# Altium schematic symbol library Schlib1.SchLib: 12 symbols
Pins are listed as number, name and electrical type; pins without a type are passive.

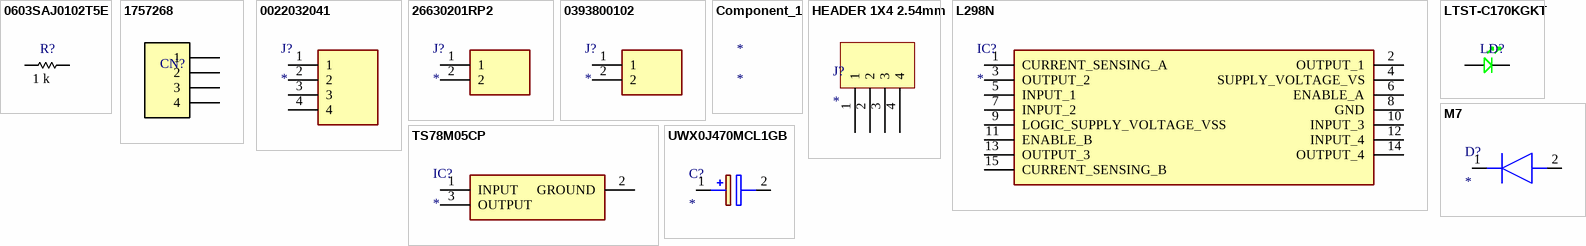
[diagram p0: symbols 0603SAJ0102T5E to UWX0J470MCL1GB]

## 0603SAJ0102T5E
designator R?  Resistance: 1 k  (hidden comment: *)
RES SMD 1K OHM 5% 1/10W 0603
footprint ROYALOHM_RES_0603
pins: 1, 2

## 1757268
designator CN?  (value not drawn)
TERM BLOCK HDR 4POS 90DEG 5.08MM; Supplier 1: Digi-Key; Supplier 2: Farnell; Supplier 3: Mouser; Supplier 4: Arrow Electronics; Supplier Part Number 1: 277-1108-ND; Supplier Part Number 2: 3705195; Supplier Part Number 3: 651-1757268; Supplier Part Number 4: 1757268
footprint PHOENIX_1757268
pins: 1, 2, 3, 4

## 0022032041
designator J?
Connector; Manufacturer_Name: Molex; Manufacturer_Part_Number: 0022032041; Description: KK 100 Header Assembly 4-Pin; Datasheet Link: http://www.molex.com/pdm_docs/sd/022032041_sd.pdf; Height: 11.55mm; Mouser Part Number: N/A; Mouser Price/Stock: https://www.mouser.co.uk/ProductDetail/Molex/0022032041?qs=PBcRNPEHKsrt5pJfEqGMHQ%3D%3D; Arrow Part Number: 0022032041; Arrow Price/Stock: https://www.arrow.com/en/products/0022032041/molex?region=europe
footprint HDRV4W87P0X254_1X4_991X236X1155P
pins: 1, 2, 3, 4

## 26630201RP2
designator J?
Connector; Manufacturer_Name: NorComp; Manufacturer_Part_Number: 26630201RP2; Description: Headers & Wire Housings 1X2 HEADER/STRAIGHT; Datasheet Link: https://datasheet.datasheetarchive.com/originals/dk/DKDS-31/606291.pdf; Height: 5.563mm; Mouser Part Number: 636-26630201RP2; Mouser Price/Stock: https://www.mouser.co.uk/ProductDetail/NorComp/26630201RP2?qs=TaIhzdgpGpXrxdLS9EY2Xg%3D%3D
footprint HDRV2W51P0X201_1X2_500X201X556P
pins: 1, 2

## 0393800102
designator J?
Connector; Manufacturer_Name: Molex; Manufacturer_Part_Number: 0393800102; Datasheet Link: https://www.molex.com/pdm_docs/sd/393800102_sd.pdf; Height: 21.63mm; Mouser Part Number: N/A; Mouser Price/Stock: https://www.mouser.co.uk/ProductDetail/Molex/0393800102?qs=PBcRNPEHKspywEvg9%2FvnAw%3D%3D; Arrow Part Number: 0393800102; Arrow Price/Stock: https://www.arrow.com/en/products/0393800102/molex
footprint 0393800102
pins: 1, 2

## Component_1
designator *

## HEADER 1X4 2.54mm
designator J?
footprint HEADER 1X4 2.54mm
pins: 1, 2, 3, 4

## L298N
designator IC?
Integrated Circuit; Manufacturer_Name: Magnatec; Description: L298N; Manufacturer_Part_Number: L298N
footprint MULTIWATT15V_1
pins: 1 CURRENT_SENSING_A, 2 OUTPUT_1, 3 OUTPUT_2, 4 SUPPLY_VOLTAGE_VS, 5 INPUT_1, 6 ENABLE_A, 7 INPUT_2, 8 GND, 9 LOGIC_SUPPLY_VOLTAGE_VSS, 10 INPUT_3, 11 ENABLE_B, 12 INPUT_4, 13 OUTPUT_3, 14 OUTPUT_4, 15 CURRENT_SENSING_B

## LTST-C170KGKT
designator LD?  (value not drawn)
LED GREEN CLEAR SMD; Supplier 1: Digi-Key; Supplier 2: Mouser; Supplier Part Number 1: 160-1414-1-ND; Supplier Part Number 2: 859-LTST-C170KGKT
footprint LITEON_0805-GREEN
pins: 1 R+, 2 R-

## M7
designator D?
Diode; Manufacturer_Name: LGE; Manufacturer_Part_Number: M7; Description: Diodes - General Purpose 1000V 1A 1.1V @ 1A SMAJ RoHS; Datasheet Link: https://datasheet.lcsc.com/szlcsc/LGE-M7-SMAJ_C330214.pdf; Height: 2.45mm
footprint DIOM5626X245N
pins: 1 K, 2 A

## TS78M05CP
designator IC?
Integrated Circuit; Manufacturer_Name: Taiwan Semiconductor; Manufacturer_Part_Number: TS78M05CP; Description: 5 V FIXED POSITIVE REGULATOR; Datasheet Link: https://componentsearchengine.com/Datasheets/1/TS78M05CP.pdf; Height: 2.38mm; Mouser Part Number: 821-TS78M05CP; Mouser Price/Stock: https://www.mouser.co.uk/ProductDetail/Taiwan-Semiconductor/TS78M05CP?qs=F0bBuU9YDEzJZsmmDzcbEA%3D%3D
footprint TS78M05CP
pins: 1 INPUT, 2 GROUND, 3 OUTPUT

## UWX0J470MCL1GB
designator C?
Capacitor Polarised; Manufacturer_Name: Nichicon; Manufacturer_Part_Number: UWX0J470MCL1GB; Datasheet Link: https://componentsearchengine.com/Datasheets/2/UWX0J470MCL1GB.pdf; Height: 5.5mm; Mouser Part Number: 647-UWX0J470MCL1; Mouser Price/Stock: https://www.mouser.co.uk/ProductDetail/Nichicon/UWX0J470MCL1GB?qs=e8oIoAS2J1Ro712%252BE6r%252Bfg%3D%3D; Arrow Part Number: UWX0J470MCL1GB; Arrow Price/Stock: https://www.arrow.com/en/products/uwx0j470mcl1gb/nichicon?region=nac
footprint CAPAE530X550N
pins: 1 +, 2 -